# Altium schematic symbol library Schlib1.SchLib: 1 symbol
Pins are listed as number, name and electrical type; pins without a type are passive.

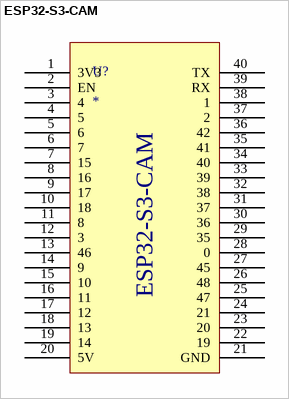
[diagram p0: symbol ESP32-S3-CAM]

## ESP32-S3-CAM
designator U?
pins: 1 3V3, 2 EN, 3 4, 4 5, 5 6, 6 7, 7 15, 8 16, 9 17, 10 18, 11 8, 12 3, 13 46, 14 9, 15 10, 16 11, 17 12, 18 13, 19 14, 20 5V, 21 GND, 22 19, 23 20, 24 21, 25 47, 26 48, 27 45, 28 0, 29 35, 30 36, 31 37, 32 38, 33 39, 34 40, 35 41, 36 42, 37 2, 38 1, 39 RX, 40 TX